# Altium footprint library TL072.PcbLib: 1 footprints
Each footprint in its own frame and in the unit in brackets; x right, y up, seen from the top. Pads: shape width x height; smd on the part's side, far side on the other; paste and mask are expansions set on the pad; w line width, h text height; cw(c..) or ccw(c..) is an arc to the next point about the centre after c.
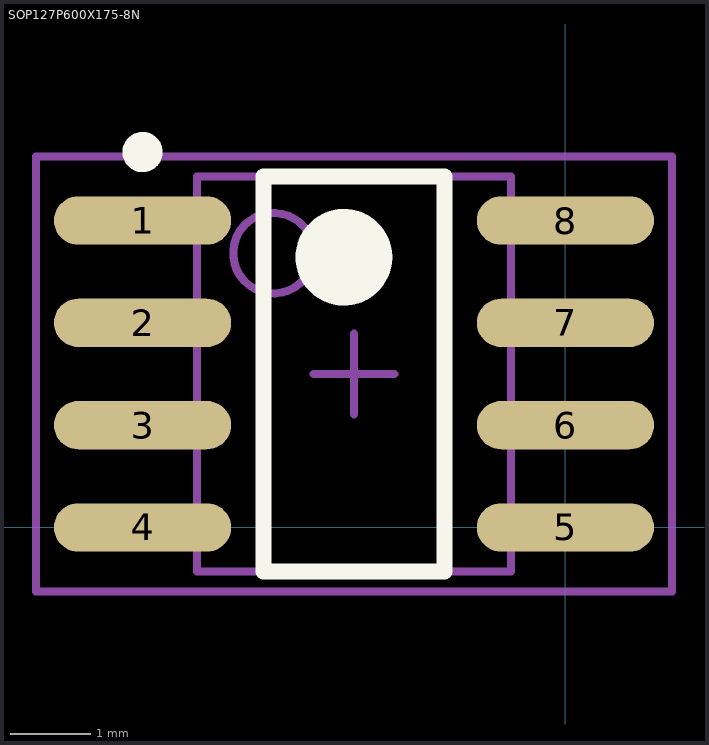
[diagram p0: the footprint, top view; thin cyan lines are the x and y axes]

## SOP127P600X175-8N [mm] "SOP, 8-Leads, Body 4.9x3.9mm (max), Pitch 1.27mm, IPC Medium Density"
height 1.75
pads (8):
  oval 2.2x0.6 smd: 1(-5.25,3.81) 2(-5.25,2.54) 3(-5.25,1.27) 4(-5.25,0) 5(0,0) 6(0,1.27) 7(0,2.54) 8(0,3.81)
Top Overlay:
  circle w0.6: c-2.75,3.355 r0.3
  circle w0.25: c-5.25,4.66 r0.125
  lines w0.2: -3.75,-0.545 -1.5,-0.545 -1.5,4.355 -3.75,4.355 -3.75,-0.545
Mechanical 13:
  circle w0.1: c-3.625,3.405 r0.5
  lines w0.1: -4.575,-0.545 -0.675,-0.545 -0.675,4.355 -4.575,4.355 -4.575,-0.545
Mechanical 15:
  lines w0.1: -3.125,1.905 -2.125,1.905 ; -2.625,1.405 -2.625,2.405 ; -6.575,-0.795 1.325,-0.795 1.325,4.605 -6.575,4.605 -6.575,-0.795
3D body: height 1.75, standoff 0.1, extent -4.575,-0.545 -0.675,4.355